# Altium footprint library Tranzistor.PcbLib: 241 footprints (part 16 of 16)
Each footprint in its own frame and in the unit in brackets; x right, y up, seen from the top. Pads: shape width x height; smd on the part's side, far side on the other; paste and mask are expansions set on the pad; w line width, h text height; cw(c..) or ccw(c..) is an arc to the next point about the centre after c.
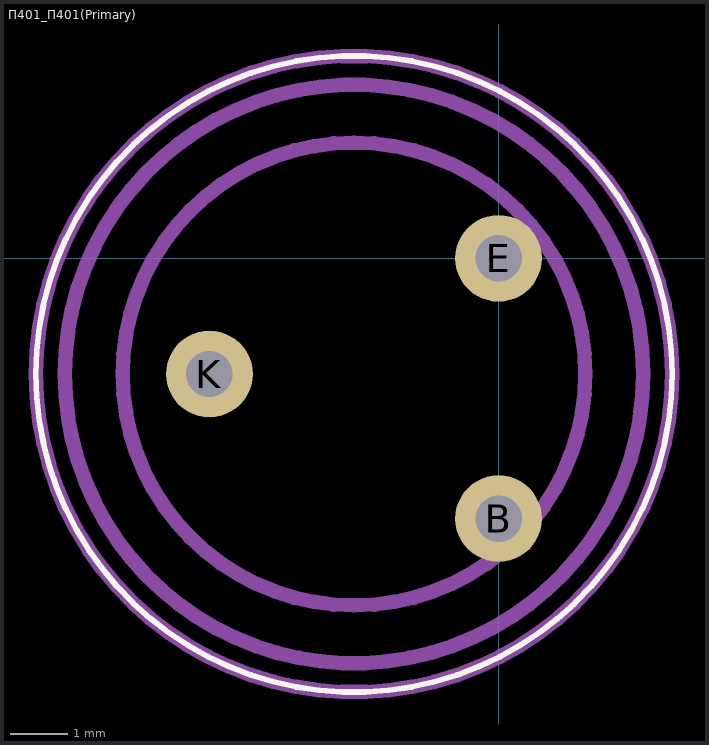
[diagram p15: the footprint, top view; thin cyan lines are the x and y axes]

## П401_П401(Primary) [mm]
pads (3):
  round 1.5 hole 0.8: B(0,-4.5) E(0,0) K(-5,-2)
Top Overlay:
  lines w0.1: -8,-2 cw(c-2.5,-2) 3,-2 cw(c-2.5,-2) -8,-2
Mechanical 1:
  lines w0.25: -8,-2 ccw(c-2.5,-2) 3,-2 ccw(c-2.5,-2) -8,-2 ; -7.5,-2 cw(c-2.5,-2) 2.5,-2 cw(c-2.5,-2) -7.5,-2 ; -6.5,-2 cw(c-2.5,-2) 1.5,-2 cw(c-2.5,-2) -6.5,-2
  text "Э" at -2.25,-0.75 h1.5
  text "Б" at -2,-5.25 h1.5
  text "K" at -3.75,-3 h1.5